# Altium footprint library EISI.PcbLib: 695 footprints (part 8 of 44)
Each footprint in its own frame and in the unit in brackets; x right, y up, seen from the top. Pads: shape width x height; smd on the part's side, far side on the other; paste and mask are expansions set on the pad; w line width, h text height; cw(c..) or ccw(c..) is an arc to the next point about the centre after c.
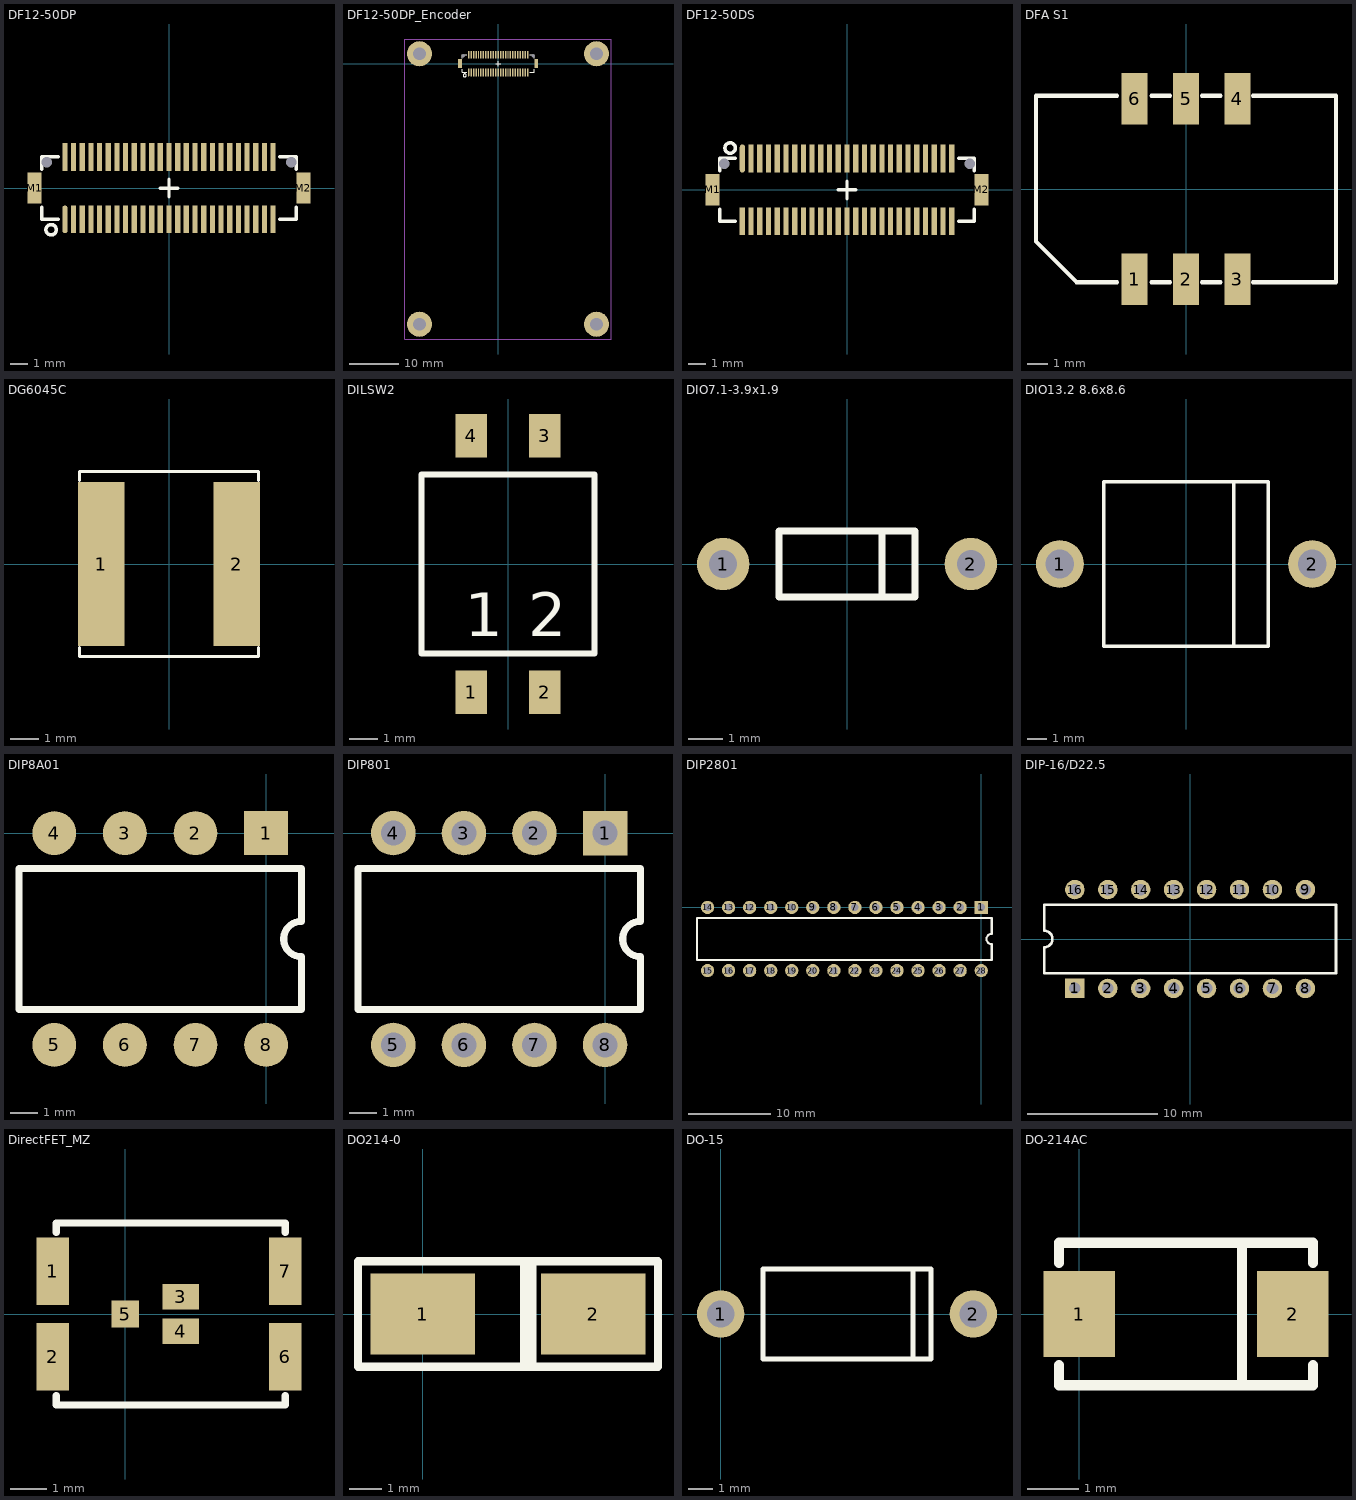
[diagram p7: the footprints below, top view; thin cyan lines are the x and y axes]

## DF12-50DP [mm] "Hirose Header 50 pin, mettal fitting, boss, 0.5mm pitch"
height 2.7
pads (54):
  oval 0.3x1.6 smd: 1(-6,-1.8)
  rect 0.3x1.6 smd: 2(-5.5,-1.8) 3(-5,-1.8) 4(-4.5,-1.8) 5(-4,-1.8) 6(-3.5,-1.8) 7(-3,-1.8) 8(-2.5,-1.8) 9(-2,-1.8) 10(-1.5,-1.8) 11(-1,-1.8) 12(-0.5,-1.8) 13(0,-1.8) 14(0.5,-1.8) 15(1,-1.8) 16(1.5,-1.8) 17(2,-1.8) 18(2.5,-1.8) 19(3,-1.8) 20(3.5,-1.8) 21(4,-1.8) 22(4.5,-1.8) 23(5,-1.8) 24(5.5,-1.8) 25(6,-1.8) 26(-6,1.8) 27(-5.5,1.8) 28(-5,1.8) 29(-4.5,1.8) 30(-4,1.8) 31(-3.5,1.8) 32(-3,1.8) 33(-2.5,1.8) 34(-2,1.8) 35(-1.5,1.8) 36(-1,1.8) 37(-0.5,1.8) 38(0,1.8) 39(0.5,1.8) 40(1,1.8) 41(1.5,1.8) 42(2,1.8) 43(2.5,1.8) 44(3,1.8) 45(3.5,1.8) 46(4,1.8) 47(4.5,1.8) 48(5,1.8) 49(5.5,1.8) 50(6,1.8)
  rect 0.8x1.8 smd: M1(-7.75,0) M2(7.75,0)
  round 0 hole 0.6 unplated: ""(-7.05,1.5) ""(7.05,1.5)
TopOverlay:
  circle w0.2: c-6.8,-2.4 r0.3
  lines w0.2: -7.35,-1.1 -7.35,-1.8 -6.4,-1.8 ; -7.35,1.1 -7.35,1.8 -6.4,1.8 ; -0.5,0 0.5,0 ; 0,-0.5 0,0.5 ; 6.4,-1.8 7.35,-1.8 7.35,-1.1 ; 6.4,1.8 7.35,1.8 7.35,1.1

## DF12-50DP_Encoder [mm] "Hirose Header 50 pin, mettal fitting, boss, 0.5mm pitch"
height 2.7
pads (58):
  oval 0.3x1.6 smd: 1(-6,-1.8)
  rect 0.3x1.6 smd: 2(-5.5,-1.8) 3(-5,-1.8) 4(-4.5,-1.8) 5(-4,-1.8) 6(-3.5,-1.8) 7(-3,-1.8) 8(-2.5,-1.8) 9(-2,-1.8) 10(-1.5,-1.8) 11(-1,-1.8) 12(-0.5,-1.8) 13(0,-1.8) 14(0.5,-1.8) 15(1,-1.8) 16(1.5,-1.8) 17(2,-1.8) 18(2.5,-1.8) 19(3,-1.8) 20(3.5,-1.8) 21(4,-1.8) 22(4.5,-1.8) 23(5,-1.8) 24(5.5,-1.8) 25(6,-1.8) 26(-6,1.8) 27(-5.5,1.8) 28(-5,1.8) 29(-4.5,1.8) 30(-4,1.8) 31(-3.5,1.8) 32(-3,1.8) 33(-2.5,1.8) 34(-2,1.8) 35(-1.5,1.8) 36(-1,1.8) 37(-0.5,1.8) 38(0,1.8) 39(0.5,1.8) 40(1,1.8) 41(1.5,1.8) 42(2,1.8) 43(2.5,1.8) 44(3,1.8) 45(3.5,1.8) 46(4,1.8) 47(4.5,1.8) 48(5,1.8) 49(5.5,1.8) 50(6,1.8)
  rect 0.8x1.8 smd: M1(-7.75,0) M2(7.75,0)
  round 5.1 hole 2.6: ""(-16,-53) ""(-16,2) ""(20,-53) ""(20,2)
  round 0 hole 0.6 unplated: ""(-7.05,1.5) ""(7.05,1.5)
TopOverlay:
  circle w0.2: c-6.8,-2.4 r0.3
  lines w0.2: -7.35,-1.1 -7.35,-1.8 -6.4,-1.8 ; -7.35,1.1 -7.35,1.8 -6.4,1.8 ; -0.5,0 0.5,0 ; 0,-0.5 0,0.5 ; 6.4,-1.8 7.35,-1.8 7.35,-1.1 ; 6.4,1.8 7.35,1.8 7.35,1.1
Mechanical15:
  lines w0.2: -19,-56 23,-56 23,5 -19,5 -19,-56

## DF12-50DS [mm] "Hirose Receptacle 50 pin, mettal fitting, boss, 0.5mm pitch"
height 2.7
pads (54):
  oval 0.3x1.6 smd: 1(-6,1.8)
  rect 0.3x1.6 smd: 2(-5.5,1.8) 3(-5,1.8) 4(-4.5,1.8) 5(-4,1.8) 6(-3.5,1.8) 7(-3,1.8) 8(-2.5,1.8) 9(-2,1.8) 10(-1.5,1.8) 11(-1,1.8) 12(-0.5,1.8) 13(0,1.8) 14(0.5,1.8) 15(1,1.8) 16(1.5,1.8) 17(2,1.8) 18(2.5,1.8) 19(3,1.8) 20(3.5,1.8) 21(4,1.8) 22(4.5,1.8) 23(5,1.8) 24(5.5,1.8) 25(6,1.8) 26(-6,-1.8) 27(-5.5,-1.8) 28(-5,-1.8) 29(-4.5,-1.8) 30(-4,-1.8) 31(-3.5,-1.8) 32(-3,-1.8) 33(-2.5,-1.8) 34(-2,-1.8) 35(-1.5,-1.8) 36(-1,-1.8) 37(-0.5,-1.8) 38(0,-1.8) 39(0.5,-1.8) 40(1,-1.8) 41(1.5,-1.8) 42(2,-1.8) 43(2.5,-1.8) 44(3,-1.8) 45(3.5,-1.8) 46(4,-1.8) 47(4.5,-1.8) 48(5,-1.8) 49(5.5,-1.8) 50(6,-1.8)
  rect 0.8x1.8 smd: M1(-7.7,0) M2(7.7,0)
  round 0 hole 0.6 unplated: ""(-7.05,1.5) ""(7.05,1.5)
TopOverlay:
  circle w0.2: c-6.7,2.4 r0.3
  lines w0.2: -7.3,-1.1 -7.3,-1.8 -6.4,-1.8 ; -7.3,1.1 -7.3,1.8 -6.4,1.8 ; -0.5,0 0.5,0 ; 0,-0.5 0,0.5 ; 6.4,-1.8 7.3,-1.8 7.3,-1.1 ; 6.4,1.8 7.3,1.8 7.3,1.1

## DFA S1 [mm] "Fordahl TCXO"
height 5.9
pads (6):
  rect 1.27x2.54 smd: 1(-2.54,-4.45) 2(0,-4.45) 3(2.54,-4.45) 4(2.54,4.45) 5(0,4.45) 6(-2.54,4.45)
TopOverlay:
  lines w0.2: -3.4,-4.6 -5.4,-4.6 -7.4,-2.6 -7.4,4.6 -3.4,4.6 ; -1.7,-4.6 -0.8,-4.6 ; -1.7,4.6 -0.8,4.6 ; 0.8,-4.6 1.7,-4.6 ; 0.8,4.6 1.7,4.6 ; 3.3,-4.6 7.4,-4.6 7.4,4.6 3.3,4.6

## DG6045C [mm] "Inductor TOKO 6.3x6.3mm SMD"
height 4.5
pads (2):
  rect 1.6x5.7 smd: 1(-2.35,0) 2(2.35,0)
TopOverlay:
  lines w0.1: -3.1,-2.9 -3.1,-3.2 3.1,-3.2 3.1,-2.9 ; -3.1,2.9 -3.1,3.2 3.1,3.2 3.1,2.9

## DILSW2 [mm]
pads (4):
  rect 1.1x1.5 smd: 1(-1.27,-4.45) 2(1.27,-4.45) 3(1.27,4.45) 4(-1.27,4.45)
TopOverlay:
  lines w0.2: -3,-3.1 -3,3.1 3,3.1 3,-3.1 -3,-3.1
  text "2" at 0.7,-2.5 h1.52
  text "1" at -1.5,-2.5 h1.52

## DIO7.1-3.9x1.9 [mm] "Diode, Axial; Body 3.8 x 1.9 mm (LxDia. max), Lead Dia. 0.53 mm (max)"
height 1.9
pads (2):
  round 1.5 hole 0.8: 1(-3.55,0) 2(3.55,0)
TopOverlay:
  lines w0.2: 1,-0.95 1,0.95 ; -1.95,-0.95 -1.95,0.95 1.95,0.95 1.95,-0.95 -1.95,-0.95

## DIO13.2 8.6x8.6 [mm] "Diode, Axial; Body 8.6 x 8.6 mm (LxDia. max), Lead Dia. 1.2 mm (max)"
height 8.6
pads (2):
  round 2.5 hole 1.5: 1(-6.6,0) 2(6.6,0)
TopOverlay:
  lines w0.2: 2.5,-4.3 2.5,4.3 ; -4.3,-4.3 -4.3,4.3 4.3,4.3 4.3,-4.3 -4.3,-4.3

## DIP8A01 [mil]
pads (8):
  rect 62x62 smd: 1(0,0)
  round 62 smd: 2(-100,0) 3(-200,0) 4(-300,0) 5(-300,-300) 6(-200,-300) 7(-100,-300) 8(0,-300)
TopOverlay:
  lines w10: -350,-250 -350,-50 50,-50 50,-125 ccw(c50,-150) 50,-175 50,-250 -350,-250

## DIP801 [mm]
pads (8):
  rect 1.6x1.6 hole 0.9: 1(0,0)
  round 1.6 hole 0.9: 2(-2.54,0) 3(-5.08,0) 4(-7.62,0) 5(-7.62,-7.62) 6(-5.08,-7.62) 7(-2.54,-7.62) 8(0,-7.62)
TopOverlay:
  lines w0.254: -8.89,-6.35 -8.89,-1.27 1.27,-1.27 1.27,-3.175 ccw(c1.27,-3.81) 1.27,-4.445 1.27,-6.35 -8.89,-6.35

## DIP2801 [mm]
pads (28):
  rect 1.6x1.6 hole 0.9: 1(0,0)
  round 1.6 hole 0.9: 2(-2.54,0) 3(-5.08,0) 4(-7.62,0) 5(-10.16,0) 6(-12.7,0) 7(-15.24,0) 8(-17.78,0) 9(-20.32,0) 10(-22.86,0) 11(-25.4,0) 12(-27.94,0) 13(-30.48,0) 14(-33.02,0) 15(-33.02,-7.62) 16(-30.48,-7.62) 17(-27.94,-7.62) 18(-25.4,-7.62) 19(-22.86,-7.62) 20(-20.32,-7.62) 21(-17.78,-7.62) 22(-15.24,-7.62) 23(-12.7,-7.62) 24(-10.16,-7.62) 25(-7.62,-7.62) 26(-5.08,-7.62) 27(-2.54,-7.62) 28(0,-7.62)
TopOverlay:
  lines w0.254: -34.29,-6.35 -34.29,-1.27 1.27,-1.27 1.27,-3.175 ccw(c1.27,-3.81) 1.27,-4.445 1.27,-6.35 -34.29,-6.35

## DIP-16/D22.5 [mm] "CerDIP; 16 Leads; Row Spacing 7.62 mm; Pitch 2.54 mm"
height 5.84
pads (16):
  rect 1.5x1.5 hole 0.9: 1(-8.89,-3.81)
  round 1.5 hole 0.9: 2(-6.35,-3.81) 3(-3.81,-3.81) 4(-1.27,-3.81) 5(1.27,-3.81) 6(3.81,-3.81) 7(6.35,-3.81) 8(8.89,-3.81) 9(8.89,3.81) 10(6.35,3.81) 11(3.81,3.81) 12(1.27,3.81) 13(-1.27,3.81) 14(-3.81,3.81) 15(-6.35,3.81) 16(-8.89,3.81)
TopOverlay:
  lines w0.2: -11.25,-2.65 -11.25,-0.635 ccw(c-11.25,0) -11.25,0.635 -11.25,2.65 11.25,2.65 11.25,-2.65 -11.25,-2.65

## DirectFET_MZ [mm] "MOSFET IR"
height 0.65
pads (7):
  rect 0.9x1.85 smd: 1(-2,1.175) 2(-2,-1.175) 6(4.4,-1.175) 7(4.4,1.175)
  rect 1x0.7 smd: 3(1.525,0.475) 4(1.525,-0.475)
  rect 0.75x0.75 smd: 5(0,0)
TopOverlay:
  lines w0.2: -1.9,-2.25 -1.9,-2.5 4.4,-2.5 4.4,-2.25 ; -1.9,2.25 -1.9,2.5 4.4,2.5 4.4,2.25
3D body: height 0.71, standoff 0, extent -1.9,-2.5 4.4,2.5

## DO214-0 [mil]
pads (2):
  rect 129x100 smd: 1(0,0) 2(210,0)
TopOverlay:
  lines w10: 125,-65 125,65 135,65 135,-65 ; 130,-65 130,65 ; -80,-65 -80,65 65,65 290,65 290,-65 65,-65 -80,-65

## DO-15 [mm]
pads (2):
  round 1.9 hole 1.1: 1(0,0) 2(10.16,0)
TopOverlay:
  lines w0.2: 7.725,-1.8 7.725,1.8 ; 1.7,-1.8 1.7,0 1.7,1.8 8.45,1.8 8.45,-1.8 1.7,-1.8

## DO-214AC [mm] "Diode DO-214AC"
height 2.1
pads (2):
  rect 1.4x1.7 smd: 1(0,0) 2(4.2,0)
TopOverlay:
  lines w0.2: -0.4,-1 -0.4,-1.4 4.6,-1.4 4.6,-1 ; -0.4,1 -0.4,1.4 4.6,1.4 4.6,1 ; 3.2,-1.4 3.2,1.4